# Altium footprint library ATK_DNESP32S3 V1.0.PcbLib: 41 footprints (part 1 of 3)
Each footprint in its own frame and in the unit in brackets; x right, y up, seen from the top. Pads: shape width x height; smd on the part's side, far side on the other; paste and mask are expansions set on the pad; w line width, h text height; cw(c..) or ccw(c..) is an arc to the next point about the centre after c.
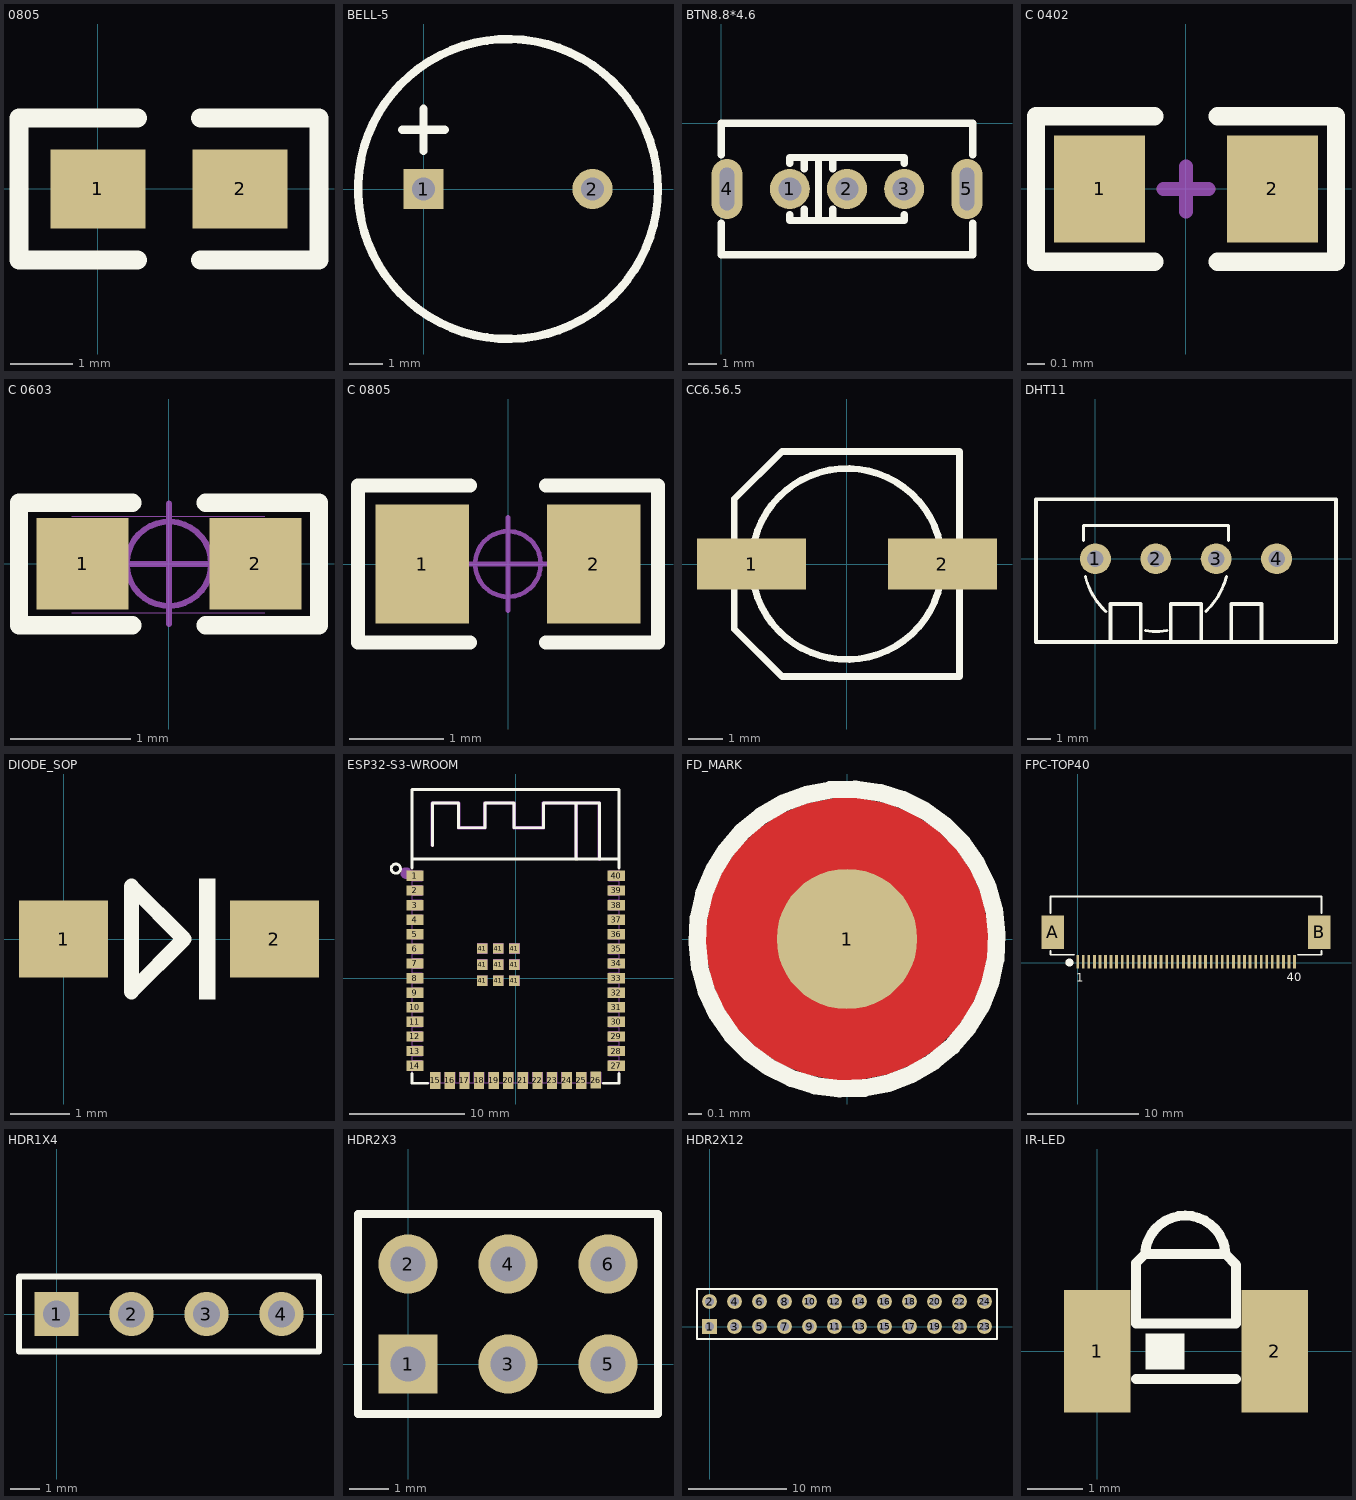
[diagram p0: the footprints below, top view; thin cyan lines are the x and y axes]

## 0805 [mil]
pads (2):
  rect 60x50 smd: 1(0,-0.06) 2(90,-0.06)
Top Overlay:
  lines w12: 25,-45.06 -50,-45.06 -50,44.94 25,44.94 ; 65,-45.06 140,-45.06 140,44.94 65,44.94

## BELL-5 [mm] "PIN:5MM,SIZE:10MM"
height 3
pads (2):
  rect 1.2x1.2 hole 0.7: 1(0,0)
  round 1.2 hole 0.7: 2(5.08,0)
Top Overlay:
  circle w0.254: c2.54,0 r4.51
  lines w0.254: -0.635,1.778 0.635,1.778 ; 0,1.143 0,2.413

## BTN8.8*4.6 [mm] "8.8mm*4.6mm*4.7mm 2段 3脚 波动开关 直立式"
height 4.7
pads (5):
  round 1.4 hole 0.8: 1(2.4,-2.298) 2(4.4,-2.298) 3(6.4,-2.298)
  oval 1.1x2.1 hole 0.5 slot 1.5 at 90 deg: 4(0.2,-2.298) 5(8.6,-2.298)
Top Overlay:
  lines w0.254: 0,-3.498 0,-4.6 8.8,-4.6 8.8,-3.498 ; 0,-1.098 0,0 8.8,0 8.8,-1.098 ; 2.4,-3.2 2.4,-3.4 6.4,-3.4 6.4,-3.2 ; 2.4,-1.4 2.4,-1.2 6.4,-1.2 6.4,-1.4 ; 2.9,-3.4 2.9,-3 ; 2.9,-1.6 2.9,-1.2 ; 3.4,-3.4 3.4,-1.2 ; 3.9,-3.4 3.9,-3 ; 3.9,-1.6 3.9,-1.2

## C 0402 [mil] "无极性贴片电容(0402)"
height 62.99
pads (2):
  rect 20x23.62 smd mask+2: 1(-19,0) 2(19,0)
Top Overlay:
  lines w4: -7,-16 -33,-16 -33,16 -7,16 ; 7,-16 33,-16 33,16 7,16
Mechanical 15:
  lines w3: -5,0 5,0 ; 0,-5 0,5
3D body "C 0402.STEP": height 20.08, standoff -0.39, extent -19.69,-10.24 19.69,10.24

## C 0603 [mil] "无极性贴片电容(0603)"
height 62.99
pads (2):
  rect 30x30 smd mask+2: 1(-28.25,0) 2(28.25,0)
Top Overlay:
  lines w6: -12,-20.06 -49,-20.06 -49,19.94 -12,19.94 ; 12,-20.06 49,-20.06 49,19.94 12,19.94
Mechanical 13:
  lines w0.39: -31.75,-16 31.25,-16 ; -31.75,15.5 31.25,15.5
Mechanical 15:
  circle w1.97: c0,0 r13.78
  lines w1.97: -19.68,0 19.69,0 ; 0,-19.68 0,19.68
3D body "C 0603.STEP": height 31.89, standoff -0.39, extent -31.5,-16.14 31.5,16.14

## C 0805 [mm] "无极性贴片电容(0805)"
height 0.5
pads (2):
  rect 1x1.27 smd: 1(-0.914,0) 2(0.914,0)
Top Overlay:
  lines w0.152: -0.406,-0.838 -1.6,-0.838 -1.6,0.838 -0.406,0.838 ; 0.406,-0.838 1.6,-0.838 1.6,0.838 0.406,0.838
Mechanical 15:
  circle w0.05: c0,0 r0.35
  lines w0.05: -0.5,0 0.5,0 ; 0,-0.5 0,0.5
3D body "C 0805.STEP": height 0.51, standoff -0.01, extent -1,-0.61 1,0.61

## CC6.56.5 [mm] "SMD;W:6.5mm;L:6.5mm;"
height 5.5
pads (2):
  rect 3.2x1.5 smd: 1(-2.794,0) 2(2.8,0)
Top Overlay:
  circle w0.2: c0,0 r2.8
  lines w0.2: -3.302,-1.905 -3.302,1.905 -1.905,3.302 3.302,3.302 3.302,-3.302 -1.905,-3.302 -3.302,-1.905

## DHT11 [mm] "2.54mm"
height 15
pads (4):
  round 1.3 hole 0.7: 1(0,0) 2(2.54,0) 3(5.08,0) 4(7.62,0)
Top Overlay:
  lines w0.127: -0.508,0.762 -0.508,1.397 5.588,1.397 5.588,0.762 ; -0.427,-0.742 ccw(c2.54,0) 0.44,-2.224 ; 2.1,-3.027 ccw(c2.54,0) 3.005,-3.023 ; 4.644,-2.22 ccw(c2.54,0) 5.507,-0.742
  lines w0.152: -2.5,-3.5 7.62,-3.5 10.12,-3.5 ; -2.5,-3.46 -2.5,0 -2.5,2.5 7.62,2.5 10.12,2.5 10.12,0 10.12,-3.46 ; 0.635,-3.5 0.635,-1.905 1.905,-1.905 1.905,-3.5 ; 3.175,-3.5 3.175,-1.905 4.445,-1.905 4.445,-3.5 ; 5.715,-3.5 5.715,-1.905 6.985,-1.905 6.985,-3.5

## DIODE_SOP [mm] "4148"
height 2
pads (2):
  rect 1.5x1.3 smd: 1(0,0) 2(3.556,0)
Top Overlay:
  rectangle: 2.286,-1.016 2.559,1.016
  lines w0.254: 1.143,-0.889 2.032,0 1.143,0.889 1.143,-0.889

## ESP32-S3-WROOM [mm] "ESP32-S3-WROOM模组"
height 1.6
pads (49):
  rect 1.5x0.9 smd paste+0 mask+0.05: 1(-8.75,8.895) 2(-8.75,7.625) 3(-8.75,6.355) 4(-8.75,5.085) 5(-8.75,3.815) 6(-8.75,2.545) 7(-8.75,1.275) 8(-8.75,0.005) 9(-8.75,-1.265) 10(-8.75,-2.535) 11(-8.75,-3.805) 12(-8.75,-5.075) 13(-8.75,-6.345) 14(-8.75,-7.615) 27(8.75,-7.615) 28(8.75,-6.345) 29(8.75,-5.075) 30(8.75,-3.805) 31(8.75,-2.535) 32(8.75,-1.265) 33(8.75,0.005) 34(8.75,1.275) 35(8.75,2.545) 36(8.75,3.815) 37(8.75,5.085) 38(8.75,6.355) 39(8.75,7.625) 40(8.75,8.895)
  rect 0.9x1.5 smd paste+0 mask+0.05: 15(-6.985,-8.895) 16(-5.715,-8.895) 17(-4.445,-8.895) 18(-3.175,-8.895) 19(-1.905,-8.895) 20(-0.635,-8.895) 21(0.635,-8.895) 22(1.905,-8.895) 23(3.175,-8.895) 24(4.445,-8.895) 25(5.715,-8.895) 26(6.985,-8.865)
  rect 0.9x0.9 smd paste+0 mask+0.051: 41(-2.9,-0.225) 41(-2.9,1.175) 41(-2.9,2.575) 41(-1.5,-0.225) 41(-1.5,1.175) 41(-1.5,2.575) 41(-0.1,-0.225) 41(-0.1,1.175) 41(-0.1,2.575)
Top Overlay:
  circle w0.254: c-10.414,9.525 r0.402
  lines w0.254: -9,-8.296 -9,-9.144 -7.666,-9.144 ; -9,9.576 -9,16.395 9,16.395 ; -9,10.355 9.017,10.355 ; -7.239,11.557 -7.239,15.24 -4.953,15.24 -4.953,13.081 -2.667,13.081 -2.667,15.24 -0.127,15.24 -0.127,13.081 2.413,13.081 2.413,15.24 5.265,15.24 5.265,10.355 ; 5.062,15.24 7.297,15.24 7.297,10.355 ; 7.666,-9.144 9.017,-9.144 9.017,-8.296 ; 9.017,9.576 9.017,16.383
Mechanical 6:
  drawing of 2 lines, arcs and shapes, not listed
Mechanical 15:
  drawing of 54 lines, arcs and shapes, not listed
3D body "ESP32-S3-WROOM-1 3D Model.STEP": height 3.1, standoff 0, extent -8.89,-9.017 9.11,16.483

## FD_MARK [mil] "FD_MARK"
height 322.83
pads (1):
  round 40 smd: 1(0,0)
Top Layer:
  pour cut-out: -40.09,0 -40.09,-3.95 -38.55,-11.69 -35.53,-18.99 -31.14,-25.55 -25.55,-31.14 -18.99,-35.53 -11.69,-38.55 -3.95,-40.09 0,-40.09 3.95,-40.09 11.69,-38.55 18.99,-35.53 25.55,-31.14 31.14,-25.55 35.53,-18.99 38.55,-11.69 40.09,-3.95 40.09,0 40.09,3.95 38.55,11.69 35.53,18.99 31.14,25.55 25.55,31.14 18.99,35.53 11.69,38.55 3.95,40.09 0,40.09 -3.95,40.09 -11.69,38.55 -18.99,35.53 -25.55,31.14 -31.14,25.55 -35.53,18.99 -38.55,11.69 -40.09,3.95
Top Overlay:
  lines w5: -40.03,-14.92 cw(c0,0) -39.9,-15.25
Top Solder:
  circle w30: c0,0 r24.49

## FPC-TOP40 [mm] "FPCTOP;0.5mm;"
height 1
pads (42):
  rect 0.25x1.2 smd: 1(0,0.102) 2(0.5,0.102) 3(1,0.102) 4(1.5,0.102) 5(2,0.102) 6(2.5,0.102) 7(3,0.102) 8(3.5,0.102) 9(4,0.102) 10(4.5,0.102) 11(5,0.102) 12(5.5,0.102) 13(6,0.102) 14(6.5,0.102) 15(7,0.102) 16(7.5,0.102) 17(8,0.102) 18(8.5,0.102) 19(9,0.102) 20(9.5,0.102) 21(10,0.102) 22(10.5,0.102) 23(11,0.102) 24(11.5,0.102) 25(12,0.102) 26(12.5,0.102) 27(13,0.102) 28(13.5,0.102) 29(14,0.102) 30(14.5,0.102) 31(15,0.102) 32(15.5,0.102) 33(16,0.102) 34(16.5,0.102) 35(17,0.102) 36(17.5,0.102) 37(18,0.102) 38(18.5,0.102) 39(19,0.102) 40(19.5,0.102)
  rect 2x3 smd: A(-2.25,2.754) B(21.725,2.754)
Top Overlay:
  circle w0.356: c-0.737,0.025 r0.178
  lines w0.127: -2.45,0.731 -2.438,0.719
  lines w0.152: -2.45,0.719 -0.305,0.719 ; -2.45,0.731 -2.45,1.067 ; -2.45,4.445 -2.45,5.969 21.925,5.969 21.925,4.47 ; 19.794,0.711 21.925,0.711 21.925,1.067
  text "40" at 18.796,-1.676 h0.76
  text "1" at -0.142,-1.691 h0.76

## HDR1X4 [mm] "Connector; Header; 4 Position"
height 1.6
pads (4):
  rect 1.5x1.5 hole 0.9: 1(0,0)
  round 1.5 hole 0.9: 2(2.54,0) 3(5.08,0) 4(7.62,0)
Top Overlay:
  lines w0.2: -1.27,-1.27 -1.27,1.27 8.89,1.27 8.89,-1.27 -1.27,-1.27

## HDR2X3 [mm] "Connector; Header; 3x2 Position"
pads (6):
  rect 1.5x1.5 hole 0.9: 1(0,0)
  round 1.5 hole 0.9: 2(0,2.54) 3(2.54,0) 4(2.54,2.54) 5(5.08,0) 6(5.08,2.54)
Top Overlay:
  lines w0.2: 1.482,-1.27 6.35,-1.27 ; 6.35,-1.27 -1.27,-1.27 -1.27,3.81 6.35,3.81 6.35,-1.27

## HDR2X12 [mm] "Connector; Header; 12x2 Position"
height 1.6
pads (24):
  rect 1.5x1.5 hole 0.9: 1(0,0)
  round 1.5 hole 0.9: 2(0,2.54) 3(2.54,0) 4(2.54,2.54) 5(5.08,0) 6(5.08,2.54) 7(7.62,0) 8(7.62,2.54) 9(10.16,0) 10(10.16,2.54) 11(12.7,0) 12(12.7,2.54) 13(15.24,0) 14(15.24,2.54) 15(17.78,0) 16(17.78,2.54) 17(20.32,0) 18(20.32,2.54) 19(22.86,0) 20(22.86,2.54) 21(25.4,0) 22(25.4,2.54) 23(27.94,0) 24(27.94,2.54)
Top Overlay:
  lines w0.2: -1.27,-1.27 29.21,-1.27 29.21,3.81 -1.27,3.81 -1.27,-1.27

## IR-LED [mm]
height 1.6
pads (2):
  rect 1.2x2.2 smd: 1(0,0) 2(3.2,0)
Top Overlay:
  rectangle: 0.875,-0.325 1.575,0.325
  lines w0.178: 0.7,-0.5 2.5,-0.5 ; 2.311,1.751 ccw(c1.587,1.718) 0.862,1.748 ; 0.862,1.748 0.7,1.587 0.7,0.5 2.5,0.5 2.5,1.558 2.309,1.748 0.862,1.748
3D body: height 1.6, standoff 0, extent 0,-0.425 3.2,0.575
3D body: height 1.6, standoff 0, extent 0.7,0.5 2.525,1.75
3D body: height 1.5, standoff 0.1, extent 0.913,1.153 2.312,2.547